# EAGLE library part TLC5955 (library WallerLabLib)
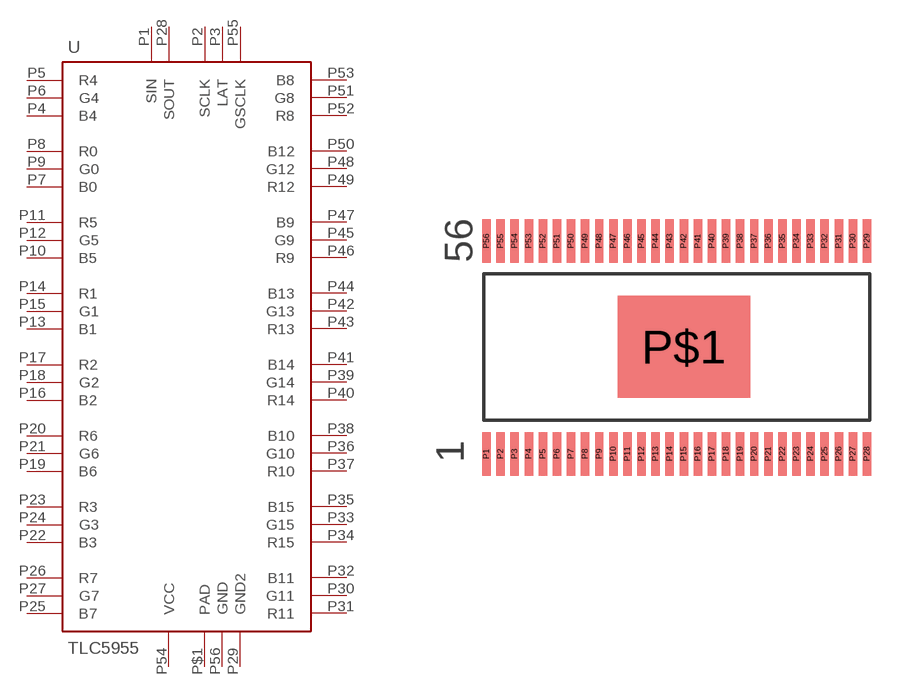
[diagram p11: symbol with the pads of 56-HTSSOP; footprint 56-HTSSOP]

Designator prefix -

## TLC5955V0  [56-HTSSOP]
P1  SIN
P2  SCLK
P3  LAT
P4  B4
P5  R4
P6  G4
P7  B0
P8  R0
P9  G0
P10  B5
P11  R5
P12  G5
P13  B1
P14  R1
P15  G1
P16  B2
P17  R2
P18  G2
P19  B6
P20  R6
P21  G6
P22  B3
P23  R3
P24  G3
P25  B7
P26  R7
P27  G7
P28  SOUT
P29  GND2
P30  G11
P31  R11
P32  B11
P33  G15
P34  R15
P35  B15
P36  G10
P37  R10
P38  B10
P39  G14
P40  R14
P41  B14
P42  G13
P43  R13
P44  B13
P45  G9
P46  R9
P47  B9
P48  G12
P49  R12
P50  B12
P51  G8
P52  R8
P53  B8
P54  VCC
P55  GSCLK
P56  GND
P$1  PAD

## Footprint 56-HTSSOP (pad centres in mm)
smd 0.3 x 1.55: P1 -7,-3.8; P2 -6.5,-3.8; P3 -6,-3.8; P4 -5.5,-3.8; P5 -5,-3.8; P6 -4.5,-3.8; P7 -4,-3.8; P8 -3.5,-3.8; P9 -3,-3.8; P10 -2.5,-3.8; P11 -2,-3.8; P12 -1.5,-3.8; P13 -1,-3.8; P14 -0.5,-3.8; P15 0,-3.8; P16 0.5,-3.8; P17 1,-3.8; P18 1.5,-3.8; P19 2,-3.8; P20 2.5,-3.8; P21 3,-3.8; P22 3.5,-3.8; P23 4,-3.8; P24 4.5,-3.8; P25 5,-3.8; P26 5.5,-3.8; P27 6,-3.8; P28 6.5,-3.8; P29 6.5,3.75; P30 6,3.75; P31 5.5,3.75; P32 5,3.75; P33 4.5,3.75; P34 4,3.75; P35 3.5,3.75; P36 3,3.75; P37 2.5,3.75; P38 2,3.75; P39 1.5,3.75; P40 1,3.75; P41 0.5,3.75; P42 0,3.75; P43 -0.5,3.75; P44 -1,3.75; P45 -1.5,3.75; P46 -2,3.75; P47 -2.5,3.75; P48 -3,3.75; P49 -3.5,3.75; P50 -4,3.75; P51 -4.5,3.75; P52 -5,3.75; P53 -5.5,3.75; P54 -6,3.75; P55 -6.5,3.75; P56 -7,3.75
smd 4.699 x 3.607: P$1 0,0